# EAGLE library part GENESIS_CART_EDGE (library gen cart)
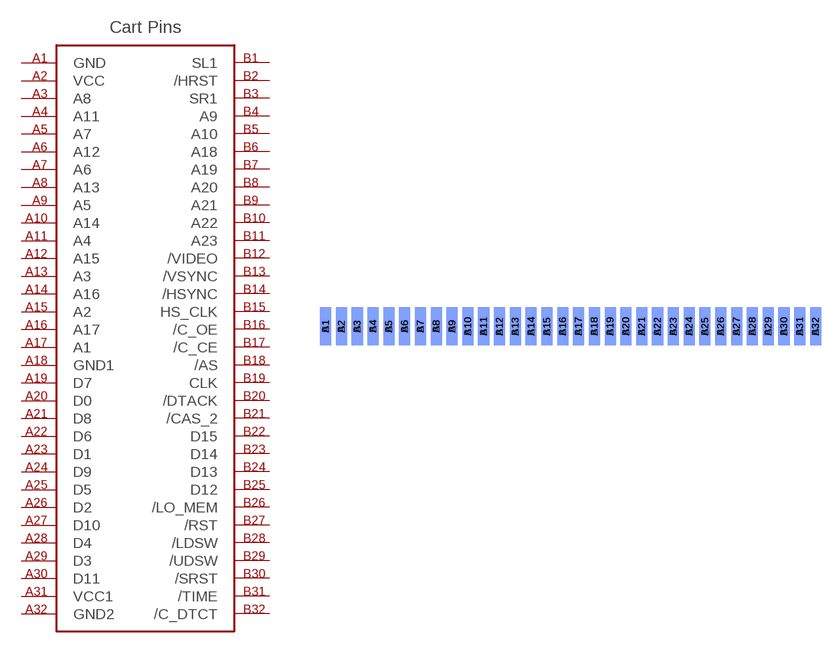
[diagram p0: symbol with the pads of GENESIS_CART_EDGE; footprint GENESIS_CART_EDGE]

Designator prefix P

## GENESIS_CART_EDGE  [GENESIS_CART_EDGE]
A1  GND
A2  VCC
A3  A8
A4  A11
A5  A7
A6  A12
A7  A6
A8  A13
A9  A5
A10  A14
A11  A4
A12  A15
A13  A3
A14  A16
A15  A2
A16  A17
A17  A1
A18  GND1
A19  D7
A20  D0
A21  D8
A22  D6
A23  D1
A24  D9
A25  D5
A26  D2
A27  D10
A28  D4
A29  D3
A30  D11
A31  VCC1
A32  GND2
B1  SL1
B2  /HRST
B3  SR1
B4  A9
B5  A10
B6  A18
B7  A19
B8  A20
B9  A21
B10  A22
B11  A23
B12  /VIDEO
B13  /VSYNC
B14  /HSYNC
B15  HS_CLK
B16  /C_OE
B17  /C_CE
B18  /AS
B19  CLK
B20  /DTACK
B21  /CAS_2
B22  D15
B23  D14
B24  D13
B25  D12
B26  /LO_MEM
B27  /RST
B28  /LDSW
B29  /UDSW
B30  /SRST
B31  /TIME
B32  /C_DTCT

## Footprint GENESIS_CART_EDGE (pad centres in mm)
smd 1.778 x 6.096: A1 -38.1,0; A2 -35.56,0; A3 -33.02,0; A4 -30.48,0; A5 -27.94,0; A6 -25.4,0; A7 -22.86,0; A8 -20.32,0; A9 -17.78,0; A10 -15.24,0; A11 -12.7,0; A12 -10.16,0; A13 -7.62,0; A14 -5.08,0; A15 -2.54,0; A16 0,0; A17 2.54,0; A18 5.08,0; A19 7.62,0; A20 10.16,0; A21 12.7,0; A22 15.24,0; A23 17.78,0; A24 20.32,0; A25 22.86,0; A26 25.4,0; A27 27.94,0; A28 30.48,0; A29 33.02,0; A30 35.56,0; A31 38.1,0; A32 40.64,0
smd 1.778 x 6.096 bottom: B1 -38.1,0; B2 -35.56,0; B3 -33.02,0; B4 -30.48,0; B5 -27.94,0; B6 -25.4,0; B7 -22.86,0; B8 -20.32,0; B9 -17.78,0; B10 -15.24,0; B11 -12.7,0; B12 -10.16,0; B13 -7.62,0; B14 -5.08,0; B15 -2.54,0; B16 0,0; B17 2.54,0; B18 5.08,0; B19 7.62,0; B20 10.16,0; B21 12.7,0; B22 15.24,0; B23 17.78,0; B24 20.32,0; B25 22.86,0; B26 25.4,0; B27 27.94,0; B28 30.48,0; B29 33.02,0; B30 35.56,0; B31 38.1,0; B32 40.64,0